# Altium footprint library FTE-105-XX-X-DV--Symbol-Altium-44987.PcbLib: 1 footprints
Each footprint in its own frame and in the unit in brackets; x right, y up, seen from the top. Pads: shape width x height; smd on the part's side, far side on the other; paste and mask are expansions set on the pad; w line width, h text height; cw(c..) or ccw(c..) is an arc to the next point about the centre after c.
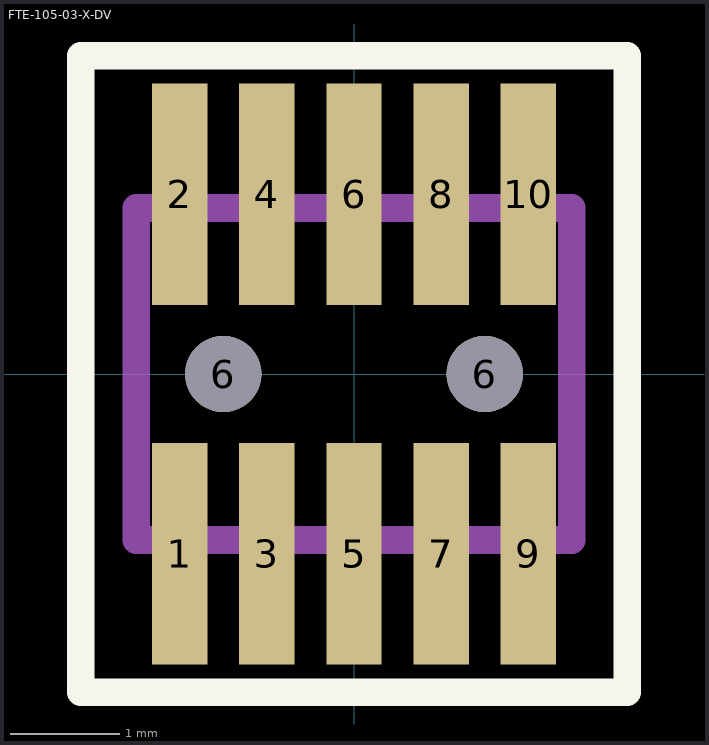
[diagram p0: the footprint, top view; thin cyan lines are the x and y axes]

## FTE-105-03-X-DV [mil]
pads (12):
  rect 20x80 smd mask+2: 1(-63,-65) 2(-63,65) 3(-31.5,-65) 4(-31.5,65) 5(0,-65) 6(0,65) 7(31.5,-65) 8(31.5,65) 9(63,-65) 10(63,65)
  round 27.56 hole 27.56 unplated: 6(-47.24,0) 6(47.24,0)
Top Overlay:
  lines w10: -98.75,-115 -98.75,115 98.75,115 98.75,-115 -98.75,-115
Mechanical 1:
  lines w10: -78.75,-60 -78.75,60 78.75,60 78.75,-60 -78.75,-60
  text "J1" at -17.57,-18 h30
3D body "FTE-105-03-G-DV-A.stp": height 190.5, standoff -24.5, extent -78.74,-89.99 78.76,90.01